# Altium footprint library logo.PcbLib: 4 footprints
Each footprint in its own frame and in the unit in brackets; x right, y up, seen from the top. Pads: shape width x height; smd on the part's side, far side on the other; paste and mask are expansions set on the pad; w line width, h text height; cw(c..) or ccw(c..) is an arc to the next point about the centre after c.
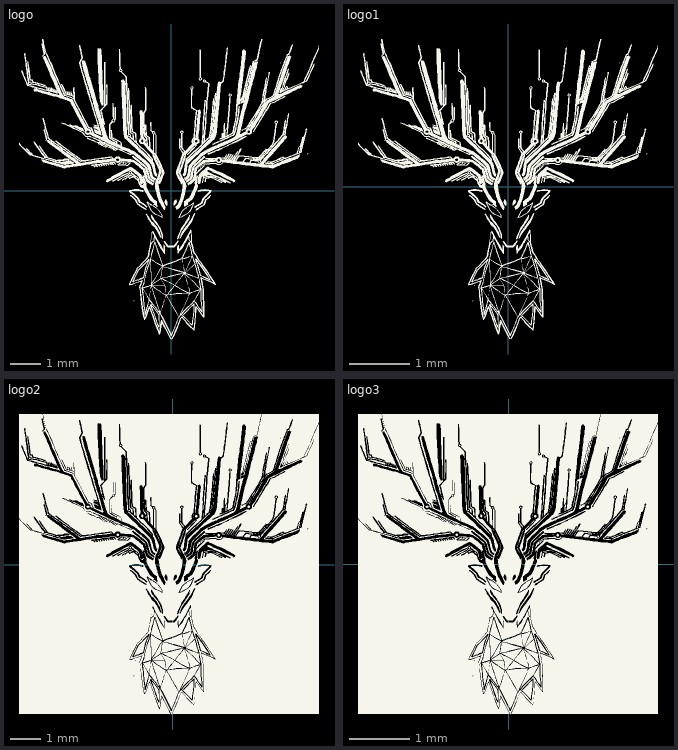
[diagram p0: the footprints below, top view; thin cyan lines are the x and y axes]

## logo [mm] "个人logo"
Top Overlay:
  drawing of 72 lines, arcs and shapes, not listed

## logo1 [mm]
Top Overlay:
  drawing of 72 lines, arcs and shapes, not listed

## logo2 [mm]
Top Overlay:
  drawing of 66 lines, arcs and shapes, not listed

## logo3 [mm]
Top Overlay:
  drawing of 66 lines, arcs and shapes, not listed